# Altium integrated library power.IntLib: 111 symbols
Pins are listed as number, name and electrical type; pins without a type are passive.

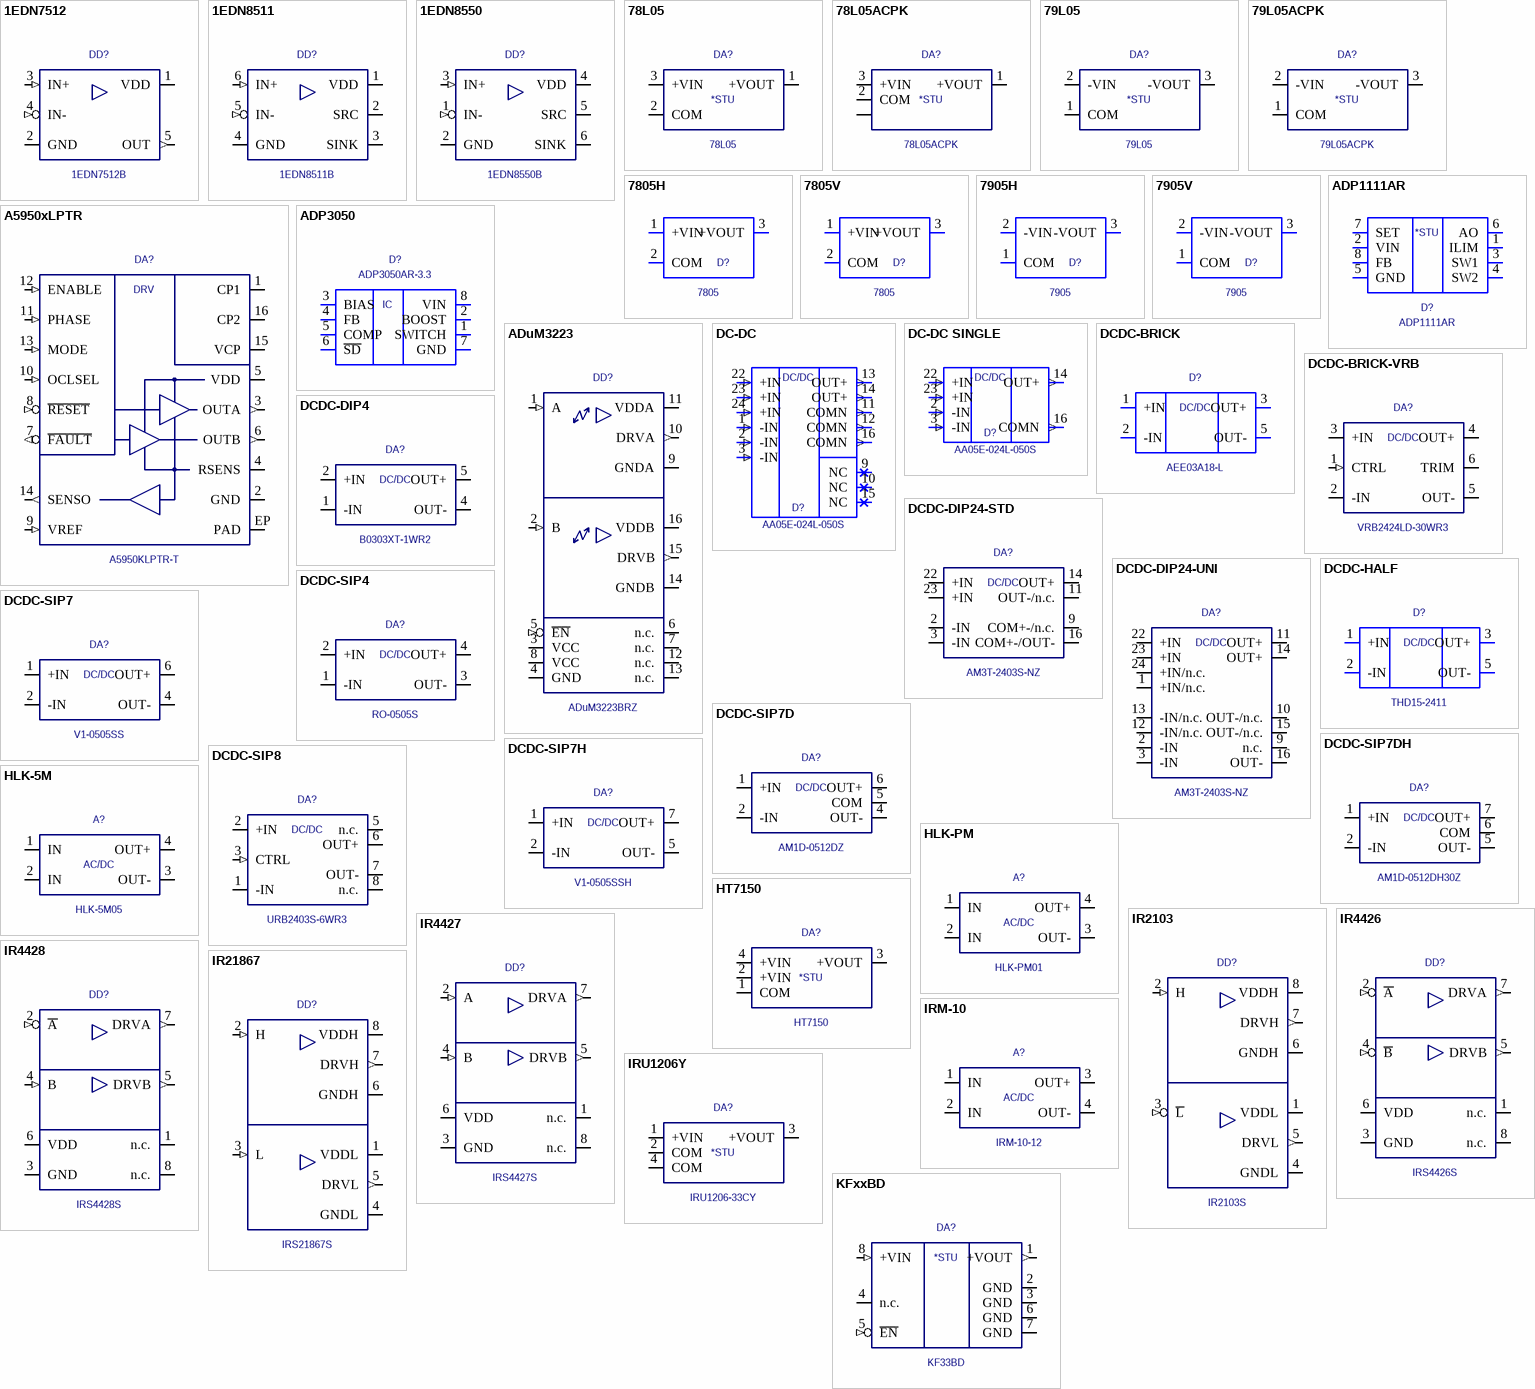
[diagram p0: symbols 1EDN7512 to KFxxBD]

## 1EDN7512
designator DD?, comment 1EDN7512B
Low side driver; Value: 1EDN7512B
footprint SOT-23-5
pins: 1 VDD (power), 2 GND (power), 3 IN+ (in), 4 IN- (in), 5 OUT (out)

## 1EDN8511
designator DD?, comment 1EDN8511B
Low side driver; Value: 1EDN8511B
footprint SOT-23-6
pins: 1 VDD (power), 2 SRC (oe), 3 SINK (oc), 4 GND (power), 5 IN- (in), 6 IN+ (in)

## 1EDN8550
designator DD?, comment 1EDN8550B
Low side driver; Value: 1EDN8550B
footprint SOT-23-6
pins: 1 IN- (in), 2 GND (power), 3 IN+ (in), 4 VDD (power), 5 SRC (oe), 6 SINK (oc)

## 78L05
designator DA?
Positive LDO to92; Value: 78L05
footprint TO-92
pins: 1 +VOUT (power), 2 COM (power), 3 +VIN (power)
text: *STU

## 78L05ACPK
designator DA?
Positive LDO sot89; Value: 78L05ACPK
footprint SOT-89-4
pins: 1 +VOUT (power), 2 COM (power), 3 +VIN (power), 4 COM (power)
text: *STU

## 79L05
designator DA?
Negative LDO to92; Value: 79L05
footprint TO-92
pins: 1 COM (power), 2 -VIN (power), 3 -VOUT (power)
text: *STU

## 79L05ACPK
designator DA?
Negative LDO sot89; Value: 79L05ACPK
footprint SOT-89-4
pins: 1 COM (power), 2 -VIN (power), 3 -VOUT (power), 4 -VIN (power)
text: *STU

## 7805H
designator D?  value 7805  (hidden comment: 7805H)
footprint TO-220-3H
pins: 1 +VIN (power), 2 COM (power), 3 +VOUT (power), 4 hidden

## 7805V
designator D?  value 7805  (hidden comment: 7805V)
footprint TO-220-3V-HV
pins: 1 +VIN (power), 2 COM (power), 3 +VOUT (power)

## 7905H
designator D?  value 7905  (hidden comment: 7905H)
footprint TO-220-3H
pins: 1 COM (power), 2 -VIN (power), 3 -VOUT (power), 4 hidden

## 7905V
designator D?  value 7905  (hidden comment: 7905V)
footprint TO-220-3V-HV
pins: 1 COM (power), 2 -VIN (power), 3 -VOUT (power)

## A5950xLPTR
designator DA?, comment A5950KLPTR-T
DC motor driver; Value: A5950KLPTR-T
footprint TSSOP16E
pins: 1 CP1, 2 GND (power), 3 OUTA (out), 4 RSENS (power), 5 VDD (power), 6 OUTB (out), 7 ~{FAULT} (out), 8 ~{RESET} (in), 9 VREF (in), 10 OCLSEL (in), 11 PHASE (in), 12 ENABLE (in), 13 MODE (in), 14 SENSO (out), 15 VCP, 16 CP2, EP PAD
text: DRV

## ADP1111AR
designator D?
Value: ADP1111AR
footprint SO8
pins: 1 ILIM, 2 VIN (power), 3 SW1, 4 SW2, 5 GND (power), 6 AO, 7 SET, 8 FB
text: *STU

## ADP3050
designator D?  value ADP3050AR-3.3  (hidden comment: ADP3050)
footprint SO8
pins: 1 SWITCH, 2 BOOST, 3 BIAS, 4 FB, 5 COMP, 6 ~{SD}, 7 GND, 8 VIN
text: IC

## ADuM3223
designator DD?, comment ADuM3223BRZ
Isolated gate driver; Value: ADuM3223BRZ
footprint SO16
footprint SO16W
pins: 1 A (in), 2 B (in), 3 VCC (power), 4 GND (power), 5 ~{EN} (in), 6 n.c., 7 n.c., 8 VCC (power), 9 GNDA (power), 10 DRVA (out), 11 VDDA (power), 12 n.c., 13 n.c., 14 GNDB (power), 15 DRVB (out), 16 VDDB (power)

## DC-DC
designator D?  value AA05E-024L-050S  (hidden comment: DC-DC)
footprint DC-DC_DC-DC(Primary)
pins: 1 -IN (in), 2 -IN (in), 3 -IN (in), 9 NC, 10 NC, 11 COMN (out), 12 COMN (out), 13 OUT+ (out), 14 OUT+ (out), 15 NC, 16 COMN (out), 22 +IN (in), 23 +IN (in), 24 +IN (in)
text: DC/DC

## DC-DC SINGLE
designator D?  value AA05E-024L-050S  (hidden comment: DC-DC SINGLE)
footprint DC-DC STANDARD_DC-DC SINGLE(Primary)
pins: 2 -IN (in), 3 -IN (in), 9 hidden, 10 hidden, 11 hidden, 14 OUT+ (out), 15 hidden, 16 COMN (out), 22 +IN (in), 23 +IN (in)
text: DC/DC

## DCDC-BRICK
designator D?  value AEE03A18-L  (hidden comment: DCDC-BRICK)
footprint DCDC-BRICK
pins: 1 +IN (power), 2 -IN (power), 3 OUT+ (power), 4 hidden, 5 OUT- (power), 6 hidden
text: DC/DC

## DCDC-BRICK-VRB
designator DA?, comment VRB2424LD-30WR3
Mornsun DCDC; Value: VRB2424LD-30WR3
footprint DCDC-BRICK-VRB (Mornsun)
pins: 1 CTRL (in), 2 -IN (power), 3 +IN (power), 4 OUT+ (power), 5 OUT- (power), 6 TRIM
text: DC/DC

## DCDC-DIP4
designator DA?, comment B0303XT-1WR2
DCDC-DIP4; Value: B0303XT-1WR2
footprint DIP8S-DCDC-12458
footprint DIP8S-DCDC
pins: 1 -IN (power), 2 +IN (power), 4 OUT- (power), 5 OUT+ (power)
text: DC/DC

## DCDC-DIP24-STD
designator DA?, comment AM3T-2403S-NZ
Standard footprint; Value: AM3T-2403S-NZ
footprint DIP24-DCDC-STD
footprint DIP24-DCDC-AM3TNZ
pins: 2 -IN (power), 3 -IN (power), 9 COM+-/n.c. (power), 11 OUT-/n.c. (power), 14 OUT+ (power), 16 COM+-/OUT- (power), 22 +IN (power), 23 +IN (power)
text: DC/DC

## DCDC-DIP24-UNI
designator DA?, comment AM3T-2403S-NZ
Universal footprint; Value: AM3T-2403S-NZ
footprint DIP24-DCDC-UNI
pins: 1 +IN/n.c. (power), 2 -IN (power), 3 -IN (power), 9 n.c. (power), 10 OUT-/n.c. (power), 11 OUT+ (power), 12 -IN/n.c. (power), 13 -IN/n.c. (power), 14 OUT+ (power), 15 OUT-/n.c. (power), 16 OUT- (power), 22 +IN (power), 23 +IN (power), 24 +IN/n.c. (power)
text: DC/DC

## DCDC-HALF
designator D?  value THD15-2411  (hidden comment: DCDC-HALF)
footprint DCDC-HALF
pins: 1 +IN (power), 2 -IN (power), 3 OUT+ (power), 4 hidden, 5 OUT- (power), 6 hidden
text: DC/DC

## DCDC-SIP4
designator DA?, comment RO-0505S
DCDC-SIP4; Value: RO-0505S
footprint SIP4
pins: 1 -IN (power), 2 +IN (power), 3 OUT- (power), 4 OUT+ (power)
text: DC/DC

## DCDC-SIP7
designator DA?, comment V1-0505SS
DCDC-SIP7; Value: V1-0505SS
footprint SIP7-1246
pins: 1 +IN (power), 2 -IN (power), 4 OUT- (power), 6 OUT+ (power)
text: DC/DC

## DCDC-SIP7D
designator DA?, comment AM1D-0512DZ
DCDC-SIP7 bipolar out; Value: AM1D-0512DZ
footprint SIP7-12456
pins: 1 +IN (power), 2 -IN (power), 4 OUT- (power), 5 COM (power), 6 OUT+ (power)
text: DC/DC

## DCDC-SIP7DH
designator DA?, comment AM1D-0512DH30Z
DCDC-SIP7H bipolar out; Value: AM1D-0512DH30Z
footprint SIP7-12567
pins: 1 +IN (power), 2 -IN (power), 5 OUT- (power), 6 COM (power), 7 OUT+ (power)
text: DC/DC

## DCDC-SIP7H
designator DA?, comment V1-0505SSH
DCDC-SIP7H; Value: V1-0505SSH
footprint SIP7-1257
pins: 1 +IN (power), 2 -IN (power), 5 OUT- (power), 7 OUT+ (power)
text: DC/DC

## DCDC-SIP8
designator DA?, comment URB2403S-6WR3
Mornsun DCDC; Value: URB2403S-6WR3
footprint SIP8-1235678
pins: 1 -IN (power), 2 +IN (power), 3 CTRL (in), 5 n.c. (power), 6 OUT+ (power), 7 OUT- (power), 8 n.c.
text: DC/DC

## HLK-5M
designator A?, comment HLK-5M05
5W AC/DC module; Value: HLK-5M05
footprint HLK-5M
pins: 1 IN (power), 2 IN (power), 3 OUT- (power), 4 OUT+ (power)
text: AC/DC

## HLK-PM
designator A?, comment HLK-PM01
3W AC/DC module; Value: HLK-PM01
footprint HLK-PM
pins: 1 IN (power), 2 IN (power), 3 OUT- (power), 4 OUT+ (power)
text: AC/DC

## HT7150
designator DA?
Positive LDO sot89; Value: HT7150
footprint SOT-89-4
pins: 1 COM, 2 +VIN, 3 +VOUT, 4 +VIN
text: *STU

## IR2103
designator DD?, comment IR2103S
Half-bridge driver; Value: IR2103S
footprint SO8
pins: 1 VDDL (power), 2 H (in), 3 ~{L} (in), 4 GNDL (power), 5 DRVL (out), 6 GNDH (power), 7 DRVH (out), 8 VDDH (power)

## IR4426
designator DD?, comment IRS4426S
Low side drivers; Value: IRS4426S
footprint SO8
pins: 1 n.c., 2 ~{A} (in), 3 GND (power), 4 ~{B} (in), 5 DRVB (out), 6 VDD (power), 7 DRVA (out), 8 n.c.

## IR4427
designator DD?, comment IRS4427S
Low side drivers; Value: IRS4427S
footprint SO8
pins: 1 n.c., 2 A (in), 3 GND (power), 4 B (in), 5 DRVB (out), 6 VDD (power), 7 DRVA (out), 8 n.c.

## IR4428
designator DD?, comment IRS4428S
Low side drivers; Value: IRS4428S
footprint SO8
pins: 1 n.c., 2 ~{A} (in), 3 GND (power), 4 B (in), 5 DRVB (out), 6 VDD (power), 7 DRVA (out), 8 n.c.

## IR21867
designator DD?, comment IRS21867S
Half-bridge driver; Value: IRS21867S
footprint SO8
pins: 1 VDDL (power), 2 H (in), 3 L (in), 4 GNDL (power), 5 DRVL (out), 6 GNDH (power), 7 DRVH (out), 8 VDDH (power)

## IRM-10
designator A?, comment IRM-10-12
10W AC/DC module; Value: IRM-10-12
footprint IRM-10
pins: 1 IN (power), 2 IN (power), 3 OUT+ (power), 4 OUT- (power)
text: AC/DC

## IRU1206Y
designator DA?, comment IRU1206-33CY
Positive LDO; Value: IRU1206-33CY
footprint SOT-223
footprint SOT-89-4
pins: 1 +VIN, 2 COM, 3 +VOUT, 4 COM
text: *STU

## KFxxBD
designator DA?, comment KF33BD
Positive LDO; Value: KF33BD
footprint SO8
pins: 1 +VOUT (out), 2 GND (power), 3 GND (power), 4 n.c. (power), 5 ~{EN} (in), 6 GND (power), 7 GND (power), 8 +VIN (in)
text: *STU

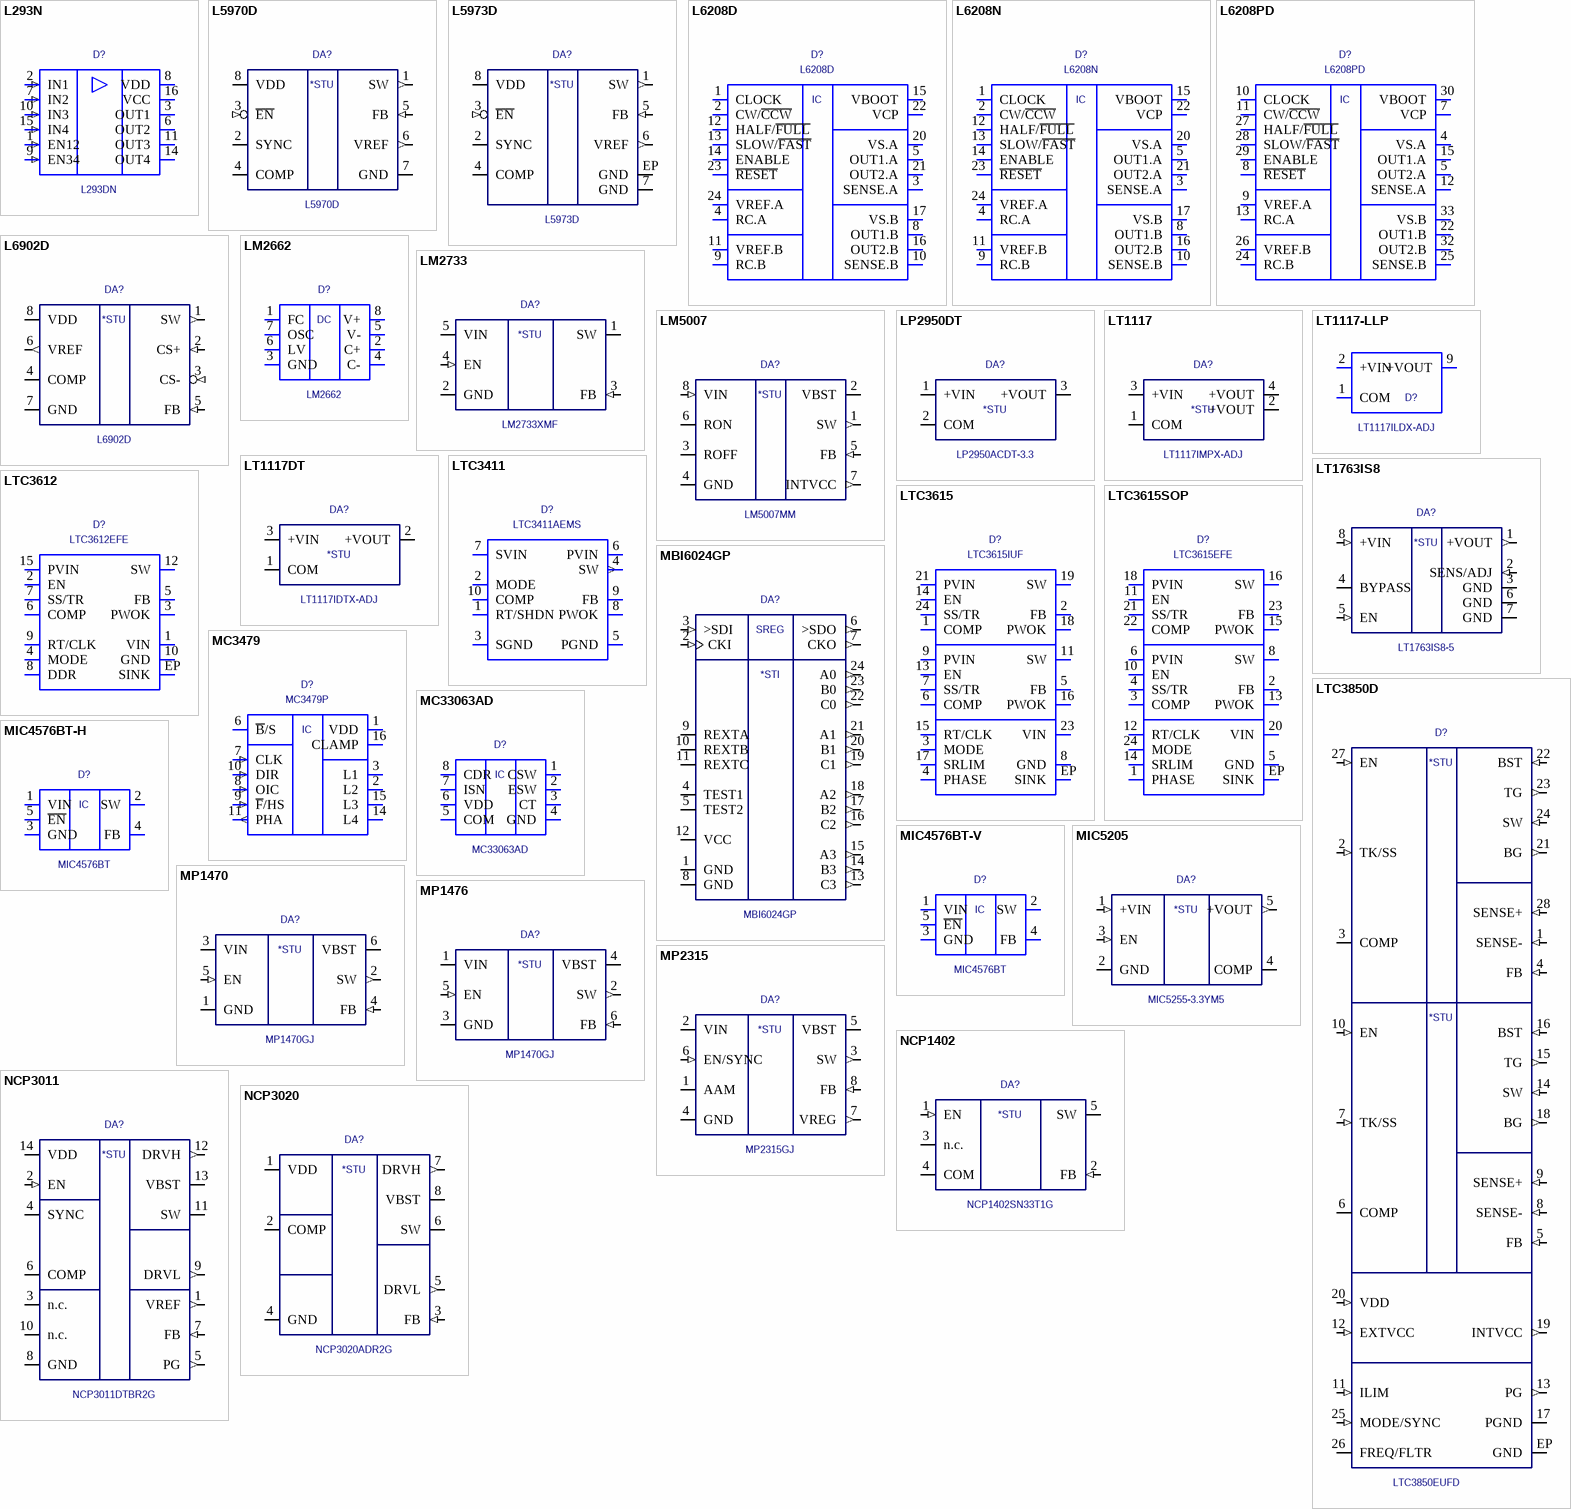
[diagram p1: symbols L293N to NCP3020]

## L293N
designator D?  value L293DN  (hidden comment: L293N)
footprint DIP16
pins: 1 EN12 (in), 2 IN1 (in), 3 OUT1, 4 GND (power) hidden, 5 GND (power) hidden, 6 OUT2, 7 IN2 (in), 8 VDD, 9 EN34 (in), 10 IN3 (in), 11 OUT3, 12 GND (power) hidden, 13 GND (power) hidden, 14 OUT4, 15 IN4 (in), 16 VCC

## L5970D
designator DA?
Step-down converter; Value: L5970D
footprint SO8
pins: 1 SW (out), 2 SYNC (io), 3 ~{EN} (in), 4 COMP, 5 FB (in), 6 VREF (out), 7 GND (power), 8 VDD (power)
text: *STU

## L5973D
designator DA?
Step-down converter; Value: L5973D
footprint SO8E
pins: 1 SW (out), 2 SYNC (io), 3 ~{EN} (in), 4 COMP, 5 FB (in), 6 VREF (out), 7 GND (power), 8 VDD (power), EP GND (power)
text: *STU

## L6208D
designator D?
Value: L6208D
footprint SO24
pins: 1 CLOCK, 2 CW/~{CCW}, 3 SENSE.A, 4 RC.A, 5 OUT1.A, 6 GND (power) hidden, 7 GND (power) hidden, 8 OUT1.B, 9 RC.B, 10 SENSE.B, 11 VREF.B, 12 HALF/~{FULL}, 13 SLOW/~{FAST}, 14 ENABLE, 15 VBOOT, 16 OUT2.B, 17 VS.B, 18 GND (power) hidden, 19 GND (power) hidden, 20 VS.A, 21 OUT2.A, 22 VCP, 23 ~{RESET}, 24 VREF.A
text: IC

## L6208N
designator D?
Value: L6208N
footprint DIP24L
pins: 1 CLOCK, 2 CW/~{CCW}, 3 SENSE.A, 4 RC.A, 5 OUT1.A, 6 GND (power) hidden, 7 GND (power) hidden, 8 OUT1.B, 9 RC.B, 10 SENSE.B, 11 VREF.B, 12 HALF/~{FULL}, 13 SLOW/~{FAST}, 14 ENABLE, 15 VBOOT, 16 OUT2.B, 17 VS.B, 18 GND (power) hidden, 19 GND (power) hidden, 20 VS.A, 21 OUT2.A, 22 VCP, 23 ~{RESET}, 24 VREF.A
text: IC

## L6208PD
designator D?
Value: L6208PD
footprint POWERSO36
pins: 1 GND (power) hidden, 2 hidden, 3 hidden, 4 VS.A, 5 OUT2.A, 6 hidden, 7 VCP, 8 ~{RESET}, 9 VREF.A, 10 CLOCK, 11 CW/~{CCW}, 12 SENSE.A, 13 RC.A, 14 hidden, 15 OUT1.A, 16 hidden, 17 hidden, 18 GND (power) hidden, 19 GND (power) hidden, 20 hidden, 21 hidden, 22 OUT1.B, 23 hidden, 24 RC.B, 25 SENSE.B, 26 VREF.B, 27 HALF/~{FULL}, 28 SLOW/~{FAST}, 29 ENABLE, 30 VBOOT, 31 hidden, 32 OUT2.B, 33 VS.B, 34 hidden, 35 hidden, 36 GND (power) hidden, 37 GND (power) hidden
text: IC

## L6902D
designator DA?
Step-down converter; Value: L6902D
footprint SO8
pins: 1 SW (out), 2 CS+ (in), 3 CS- (in), 4 COMP, 5 FB (in), 6 VREF (out), 7 GND (power), 8 VDD (power)
text: *STU

## LM2662
designator D?
Value: LM2662
footprint SO8
pins: 1 FC, 2 C+, 3 GND, 4 C-, 5 V-, 6 LV, 7 OSC, 8 V+
text: DC

## LM2733
designator DA?, comment LM2733XMF
Step-up converter; Value: LM2733XMF
footprint SOT-23-5
pins: 1 SW, 2 GND (power), 3 FB (in), 4 EN (in), 5 VIN (power)
text: *STU

## LM5007
designator DA?, comment LM5007MM
Step-down 80V 0.7A; Value: LM5007MM
footprint TSSOP8-4MM (0.65mm pitch)
pins: 1 SW (out), 2 VBST, 3 ROFF (power), 4 GND (power), 5 FB (in), 6 RON (power), 7 INTVCC (out), 8 VIN (in)
text: *STU

## LP2950DT
designator DA?, comment LP2950ACDT-3.3
LDO TO-252; Value: LP2950ACDT-3.3
footprint TO-252-3
pins: 1 +VIN, 2 COM, 3 +VOUT
text: *STU

## LT1117
designator DA?, comment LT1117IMPX-ADJ
Positive LDO sot223; Value: LT1117IMPX-ADJ
footprint SOT-223
footprint TO-263-4
pins: 1 COM, 2 +VOUT, 3 +VIN, 4 +VOUT
text: *STU

## LT1117-LLP
designator D?  value LT1117ILDX-ADJ  (hidden comment: LT1117-LLP)
footprint LLP8
pins: 1 COM, 2 +VIN, 3 hidden, 4 hidden, 5 hidden, 6 hidden, 7 hidden, 8 hidden, 9 +VOUT

## LT1117DT
designator DA?, comment LT1117IDTX-ADJ
LT1117; Value: LT1117IDTX-ADJ
footprint TO-252-3
footprint SOT-23 (0.95mm pitch)
pins: 1 COM, 2 +VOUT, 3 +VIN
text: *STU

## LT1763IS8
designator DA?, comment LT1763IS8-5
Positive LDO; Value: LT1763IS8-5
footprint SO8
pins: 1 +VOUT (out), 2 SENS/ADJ (in), 3 GND (power), 4 BYPASS, 5 EN (in), 6 GND (power), 7 GND (power), 8 +VIN (in)
text: *STU

## LTC3411
designator D?  value LTC3411AEMS  (hidden comment: LTC3411)
footprint MSOP10
pins: 1 RT/SHDN, 2 MODE, 3 SGND (power), 4 SW (out), 5 PGND (power), 6 PVIN (power), 7 SVIN (power), 8 PWOK (oe), 9 FB, 10 COMP

## LTC3612
designator D?  value LTC3612EFE  (hidden comment: LTC3612)
footprint TSSOP20E
pins: 1 VIN, 2 EN, 3 PWOK, 4 MODE, 5 FB, 6 COMP, 7 SS/TR, 8 DDR, 9 RT/CLK, 10 GND, 11 hidden, 12 SW, 13 hidden, 14 hidden, 15 PVIN, 16 hidden, 17 hidden, 18 hidden, 19 hidden, 20 hidden, EP SINK

## LTC3615
designator D?  value LTC3615IUF  (hidden comment: LTC3615)
footprint MLF24
pins: 1 COMP, 2 FB, 3 MODE, 4 PHASE, 5 FB, 6 COMP, 7 SS/TR, 8 GND, 9 PVIN, 10 hidden, 11 SW, 12 hidden, 13 EN, 14 EN, 15 RT/CLK, 16 PWOK, 17 SRLIM, 18 PWOK, 19 SW, 20 hidden, 21 PVIN, 22 hidden, 23 VIN, 24 SS/TR, EP SINK

## LTC3615SOP
designator D?  value LTC3615EFE  (hidden comment: LTC3615SOP)
footprint TSSOP24E
pins: 1 PHASE, 2 FB, 3 COMP, 4 SS/TR, 5 GND, 6 PVIN, 7 hidden, 8 SW, 9 hidden, 10 EN, 11 EN, 12 RT/CLK, 13 PWOK, 14 SRLIM, 15 PWOK, 16 SW, 17 hidden, 18 PVIN, 19 hidden, 20 VIN, 21 SS/TR, 22 COMP, 23 FB, 24 MODE, EP SINK

## LTC3850D
designator D?, comment LTC3850EUFD
2x step-down controller; Value: LTC3850EUFD
footprint MLF28-4x5
pins: 1 SENSE- (in), 2 TK/SS (in), 3 COMP, 4 FB (in), 5 FB (in), 6 COMP, 7 TK/SS (in), 8 SENSE- (in), 9 SENSE+ (in), 10 EN (in), 11 ILIM (in), 12 EXTVCC (in), 13 PG (out), 14 SW (in), 15 TG (out), 16 BST (in), 17 PGND (power), 18 BG (out), 19 INTVCC (out), 20 VDD (in), 21 BG (out), 22 BST (in), 23 TG (out), 24 SW (in), 25 MODE/SYNC (in), 26 FREQ/FLTR, 27 EN (in), 28 SENSE+ (in), EP GND (power)
text: *STU

## MBI6024GP
designator DA?
LED driver; Value: MBI6024GP
footprint TSSOP24-6MM (0.65mm pitch)
pins: 1 GND (power), 2 CKI (in), 3 >SDI (in), 4 TEST1, 5 TEST2, 6 >SDO (out), 7 CKO (out), 8 GND (power), 9 REXTA, 10 REXTB, 11 REXTC, 12 VCC (power), 13 C3 (out), 14 B3 (out), 15 A3 (out), 16 C2 (out), 17 B2 (out), 18 A2 (out), 19 C1 (out), 20 B1 (out), 21 A1 (out), 22 C0 (out), 23 B0 (out), 24 A0 (out)
text: SREG; *STI

## MC3479
designator D?  value MC3479P  (hidden comment: MC3479)
footprint DIP16
pins: 1 VDD (power), 2 L2, 3 L1, 4 GND (power) hidden, 5 GND (power) hidden, 6 ~{B}/S, 7 CLK (in), 8 OIC (in), 9 ~{F}/HS (in), 10 DIR (in), 11 PHA (out), 12 GND (power) hidden, 13 GND (power) hidden, 14 L4, 15 L3, 16 CLAMP
text: IC

## MC33063AD
designator D?
Value: MC33063AD
footprint SO8
pins: 1 CSW, 2 ESW, 3 CT, 4 GND, 5 COM, 6 VDD, 7 ISN, 8 CDR
text: IC

## MIC4576BT-H
designator D?  value MIC4576BT  (hidden comment: MIC4576BT-H)
footprint TO-220-5H
pins: 1 VIN, 2 SW, 3 GND, 4 FB, 5 ~{EN}, 6 hidden
text: IC

## MIC4576BT-V
designator D?  value MIC4576BT  (hidden comment: MIC4576BT-V)
footprint TO-220-5V
pins: 1 VIN, 2 SW, 3 GND, 4 FB, 5 ~{EN}
text: IC

## MIC5205
designator DA?, comment MIC5255-3.3YM5
Positive LDO; Value: MIC5255-3.3YM5
footprint SOT-23-5
pins: 1 +VIN (in), 2 GND (power), 3 EN (in), 4 COMP, 5 +VOUT (out)
text: *STU

## MP1470
designator DA?, comment MP1470GJ
Step-down SOT-23-6; Value: MP1470GJ
footprint SOT-23-6 (0.95mm pitch)
pins: 1 GND (power), 2 SW (out), 3 VIN (power), 4 FB (in), 5 EN (in), 6 VBST
text: *STU

## MP1476
designator DA?, comment MP1470GJ
Step-down SOT-563; Value: MP1470GJ
footprint SOT-563 (0,5mm pitch)
pins: 1 VIN (power), 2 SW (out), 3 GND (power), 4 VBST, 5 EN (in), 6 FB (in)
text: *STU

## MP2315
designator DA?, comment MP2315GJ
Step-down SOT-23-8; Value: MP2315GJ
footprint SOT-23-8
pins: 1 AAM, 2 VIN (power), 3 SW (out), 4 GND (power), 5 VBST, 6 EN/SYNC (in), 7 VREG (out), 8 FB (in)
text: *STU

## NCP1402
designator DA?, comment NCP1402SN33T1G
Step-up 200mA; Value: NCP1402SN33T1G
footprint SOT-23-5
pins: 1 EN (in), 2 FB (in), 3 n.c., 4 COM (power), 5 SW (oc)
text: *STU

## NCP3011
designator DA?, comment NCP3011DTBR2G
Step-down controller; Value: NCP3011DTBR2G
footprint TSSOP14
pins: 1 VREF (out), 2 EN (in), 3 n.c., 4 SYNC (io), 5 PG (out), 6 COMP, 7 FB (in), 8 GND (power), 9 DRVL (out), 10 n.c. (power), 11 SW, 12 DRVH (out), 13 VBST, 14 VDD (power)
text: *STU

## NCP3020
designator DA?, comment NCP3020ADR2G
Step-down controller; Value: NCP3020ADR2G
footprint SO8
pins: 1 VDD (power), 2 COMP, 3 FB (in), 4 GND (power), 5 DRVL (out), 6 SW, 7 DRVH (out), 8 VBST
text: *STU

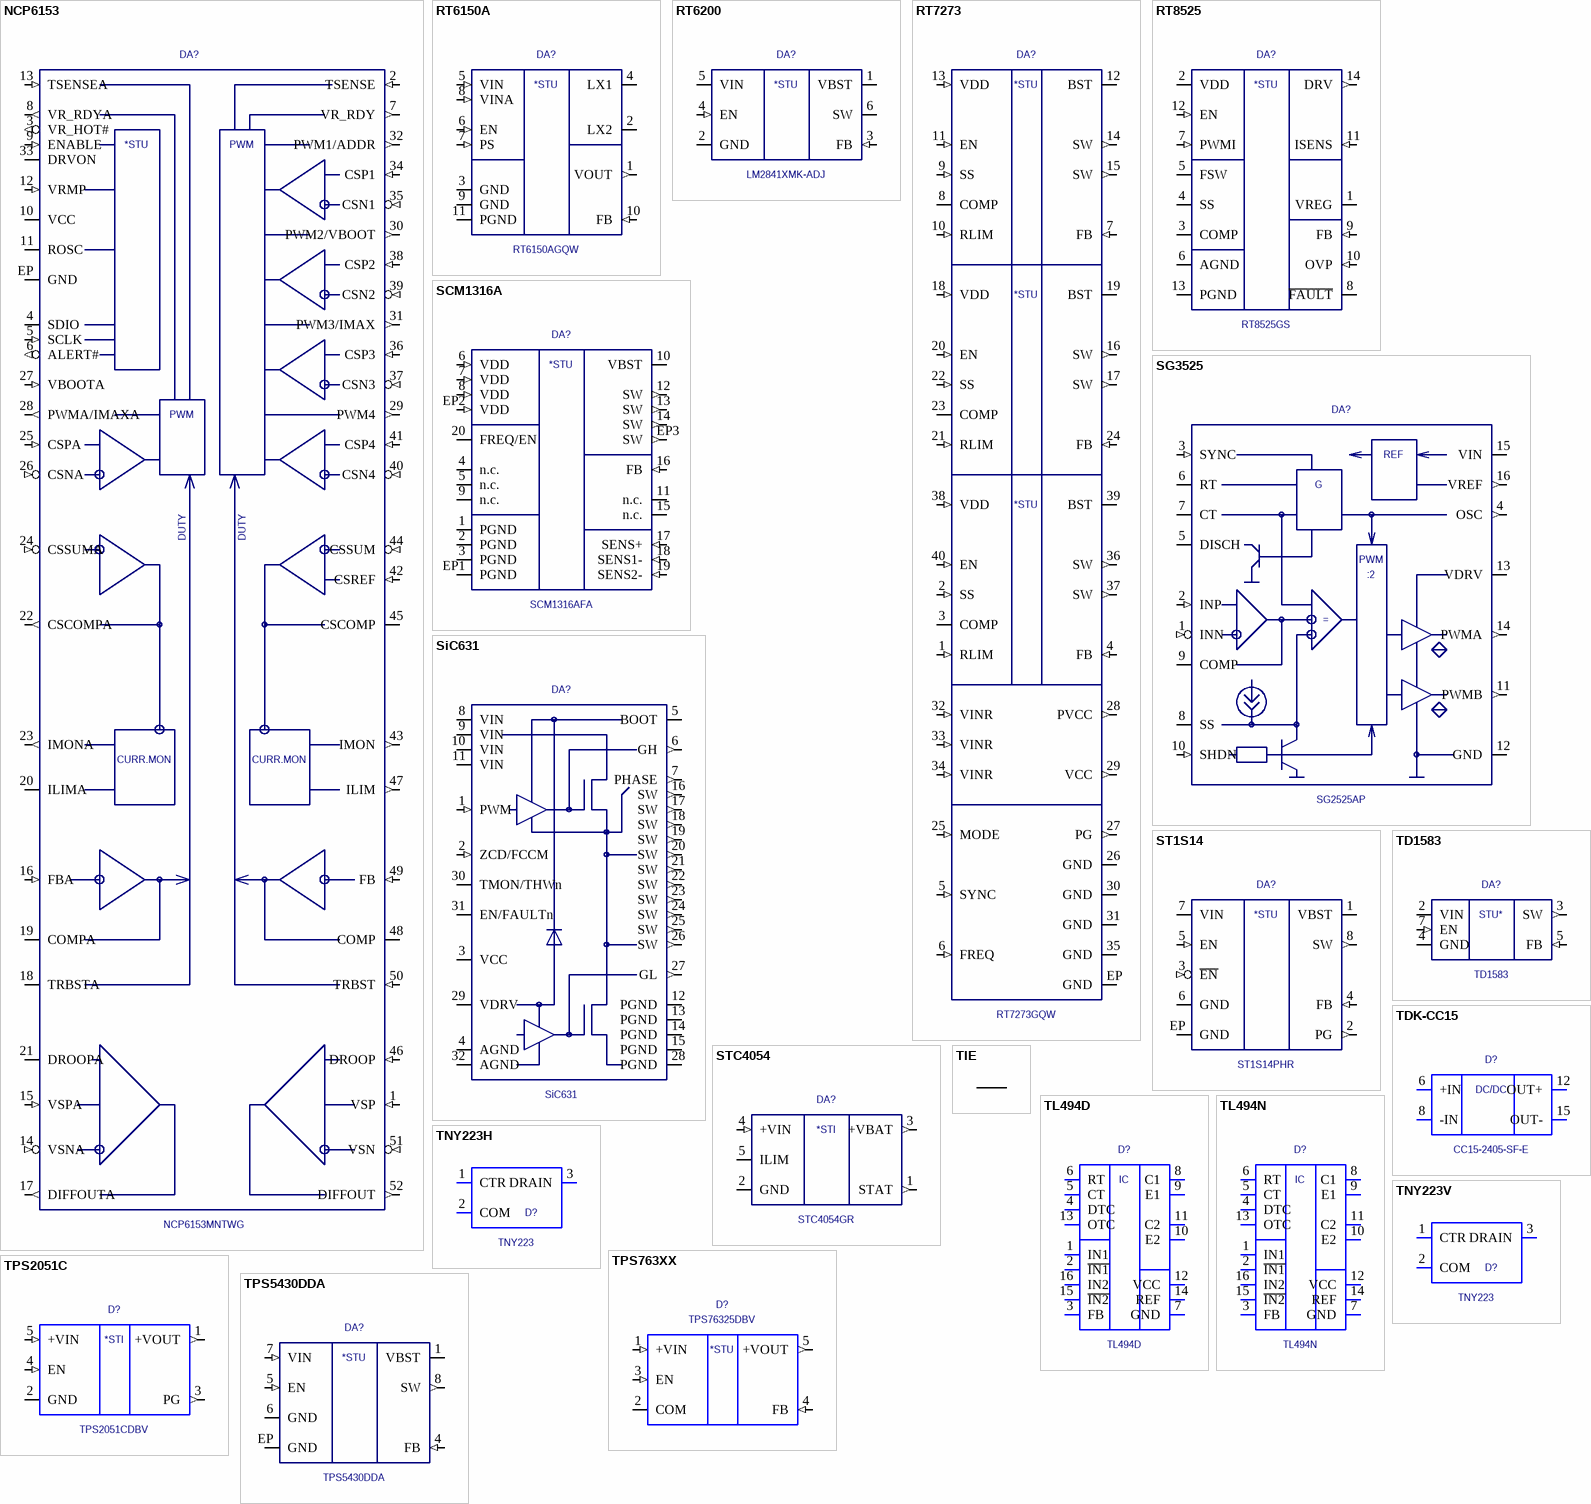
[diagram p2: symbols NCP6153 to TPS5430DDA]

## NCP6153
designator DA?, comment NCP6153MNTWG
4+1 phase controller; Value: NCP6153MNTWG
footprint QFN52-04
pins: 1 VSP (in), 2 TSENSE (in), 3 VR_HOT# (out), 4 SDIO (io), 5 SCLK (in), 6 ALERT# (out), 7 VR_RDY (out), 8 VR_RDYA (out), 9 ENABLE (in), 10 VCC (power), 11 ROSC, 12 VRMP (in), 13 TSENSEA (in), 14 VSNA (in), 15 VSPA (in), 16 FBA (in), 17 DIFFOUTA (out), 18 TRBSTA, 19 COMPA (io), 20 ILIMA, 21 DROOPA, 22 CSCOMPA (out), 23 IMONA (out), 24 CSSUMA (in), 25 CSPA (in), 26 CSNA (in), 27 VBOOTA (in), 28 PWMA/IMAXA (out), 29 PWM4 (out), 30 PWM2/VBOOT (out), 31 PWM3/IMAX (out), 32 PWM1/ADDR (out), 33 DRVON (io), 34 CSP1 (in), 35 CSN1 (in), 36 CSP3 (in), 37 CSN3 (in), 38 CSP2 (in), 39 CSN2 (in), 40 CSN4 (in), 41 CSP4 (in), 42 CSREF (in), 43 IMON (out), 44 CSSUM (in), 45 CSCOMP (io), 46 DROOP (in), 47 ILIM (out), 48 COMP (io), 49 FB (in), 50 TRBST (in), 51 VSN (in), 52 DIFFOUT (out), EP GND (power)
text: *STU; PWM; DUTY; CURR.MON

## RT6150A
designator DA?, comment RT6150AGQW
StepUp/Down converter; Value: RT6150AGQW
footprint PVQFN-N10
pins: 1 VOUT (out), 2 LX2, 3 GND (power), 4 LX1, 5 VIN (in), 6 EN (in), 7 PS (in), 8 VINA (in), 9 GND (power), 10 FB (in), 11 PGND (power), 12 PGND (power), 13 PGND (power), 14 PGND (power), 15 PGND (power)
text: *STU

## RT6200
designator DA?, comment LM2841XMK-ADJ
Step-down converter; Value: LM2841XMK-ADJ
footprint SOT-23-6
pins: 1 VBST, 2 GND (power), 3 FB (in), 4 EN (in), 5 VIN (power), 6 SW
text: *STU

## RT7273
designator DA?, comment RT7273GQW
3x step-down converter; Value: RT7273GQW
footprint MLF40
pins: 1 RLIM (in), 2 SS (in), 3 COMP, 4 FB (in), 5 SYNC (in), 6 FREQ (in), 7 FB (in), 8 COMP, 9 SS (in), 10 RLIM (in), 11 EN (in), 12 BST, 13 VDD (in), 14 SW (out), 15 SW (out), 16 SW (out), 17 SW (out), 18 VDD (in), 19 BST, 20 EN (in), 21 RLIM (in), 22 SS (in), 23 COMP, 24 FB (in), 25 MODE (in), 26 GND (power), 27 PG (out), 28 PVCC (out), 29 VCC (out), 30 GND (power), 31 GND (power), 32 VINR (in), 33 VINR (in), 34 VINR (in), 35 GND (power), 36 SW (out), 37 SW (out), 38 VDD (in), 39 BST, 40 EN (in), EP GND (power)
text: *STU

## RT8525
designator DA?, comment RT8525GS
StepUp controller; Value: RT8525GS
footprint SO14
pins: 1 VREG, 2 VDD (power), 3 COMP, 4 SS, 5 FSW, 6 AGND (power), 7 PWMI (in), 8 ~{FAULT} (io), 9 FB (in), 10 OVP (in), 11 ISENS (in), 12 EN (in), 13 PGND (power), 14 DRV (out)
text: *STU

## SCM1316A
designator DA?, comment SCM1316AFA
Step-down 6A converter; Value: SCM1316AFA
footprint PVQFN20-0.8 (Mornsun SCM1316)
pins: 1 PGND (power), 2 PGND (power), 3 PGND (power), 4 n.c., 5 n.c., 6 VDD (in), 7 VDD (in), 8 VDD (in), 9 n.c., 10 VBST, 11 n.c., 12 SW (out), 13 SW (out), 14 SW (out), 15 n.c., 16 FB (in), 17 SENS+ (in), 18 SENS1- (in), 19 SENS2- (in), 20 FREQ/EN, EP1 PGND (power), EP2 VDD (in), EP3 SW (out)
text: *STU

## SG3525
designator DA?, comment SG2525AP
Push-pull controller; Value: SG2525AP
footprint SO16
footprint DIP16
pins: 1 INN (in), 2 INP (in), 3 SYNC (in), 4 OSC (out), 5 DISCH, 6 RT, 7 CT, 8 SS (io), 9 COMP (io), 10 SHDN (in), 11 PWMB (out), 12 GND (power), 13 VDRV (power), 14 PWMA (out), 15 VIN (power), 16 VREF (out)
text: REF; G; PWM; :2

## SiC631
designator DA?
DrMOS; Value: SiC631
footprint MLP55-31L
pins: 1 PWM (in), 2 ZCD/FCCM (in), 3 VCC (power), 4 AGND (power), 5 BOOT (power), 6 GH (out), 7 PHASE (out), 8 VIN (power), 9 VIN (power), 10 VIN (power), 11 VIN (power), 12 PGND (power), 13 PGND (power), 14 PGND (power), 15 PGND (power), 16 SW (out), 17 SW (out), 18 SW (out), 19 SW (out), 20 SW (out), 21 SW (out), 22 SW (out), 23 SW (out), 24 SW (out), 25 SW (out), 26 SW (out), 27 GL (out), 28 PGND (power), 29 VDRV (power), 30 TMON/THWn (io), 31 EN/FAULTn (io), 32 AGND (power), 34 VIN (power), 35 PGND (power), 36 PGND (power), 37 SW (out), 38 SW (out)

## ST1S14
designator DA?, comment ST1S14PHR
Step-down converter; Value: ST1S14PHR
footprint SO8E
pins: 1 VBST, 2 PG (out), 3 ~{EN} (in), 4 FB (in), 5 EN (in), 6 GND (power), 7 VIN (power), 8 SW (out), EP GND (power)
text: *STU

## STC4054
designator DA?, comment STC4054GR
1cell LiIon charger; Analog: YB1880ST25P; Value: STC4054GR
footprint SOT-23-5
pins: 1 STAT (out), 2 GND (power), 3 +VBAT (out), 4 +VIN (in), 5 ILIM
text: *STI

## TD1583
designator DA?
StepDown 3A; Value: TD1583
footprint SO8
pins: 2 VIN (power), 3 SW (out), 4 GND (power), 5 FB (in), 7 EN (in)
text: STU*

## TDK-CC15
designator D?  value CC15-2405-SF-E  (hidden comment: TDK-CC15)
footprint TDK-CC15
pins: 1 hidden, 2 hidden, 3 hidden, 4 hidden, 5 hidden, 6 +IN (power), 7 hidden, 8 -IN (power), 9 hidden, 10 hidden, 11 hidden, 12 OUT+ (power), 13 hidden, 14 hidden, 15 OUT- (power), 16 hidden, 17 hidden, 18 hidden, 19 hidden
text: DC/DC

## TIE
designator ?  (net tie, no BOM)
Net tie
pins: 1, 2

## TL494D
designator D?
Value: TL494D
footprint SO16
pins: 1 IN1, 2 ~{IN1}, 3 FB, 4 DTC, 5 CT, 6 RT, 7 GND, 8 C1, 9 E1, 10 E2, 11 C2, 12 VCC, 13 OTC, 14 REF, 15 ~{IN2}, 16 IN2
text: IC

## TL494N
designator D?
Value: TL494N
footprint DIP16
pins: 1 IN1, 2 ~{IN1}, 3 FB, 4 DTC, 5 CT, 6 RT, 7 GND, 8 C1, 9 E1, 10 E2, 11 C2, 12 VCC, 13 OTC, 14 REF, 15 ~{IN2}, 16 IN2
text: IC

## TNY223H
designator D?  value TNY223  (hidden comment: TNY223H)
footprint TO-220-3H
pins: 1 CTR, 2 COM, 3 DRAIN, 4 hidden

## TNY223V
designator D?  value TNY223  (hidden comment: TNY223V)
footprint TO-220-3V-HV
pins: 1 CTR, 2 COM, 3 DRAIN

## TPS763XX
designator D?, comment TPS76325DBV
Positive LDO; Value: TPS76325DBV
footprint SOT-23-5
pins: 1 +VIN (in), 2 COM (power), 3 EN (in), 4 FB (in), 5 +VOUT (out)
text: *STU

## TPS2051C
designator D?, comment TPS2051CDBV
USB current lim SOT23-5; Value: TPS2051CDBV
footprint SOT-23-5
pins: 1 +VOUT (out), 2 GND (power), 3 PG (out), 4 EN (in), 5 +VIN (in)
text: *STI

## TPS5430DDA
designator DA?
Step-down converter; Value: TPS5430DDA
footprint SO8E
pins: 1 VBST, 4 FB (in), 5 EN (in), 6 GND (power), 7 VIN (in), 8 SW (out), EP GND (power)
text: *STU

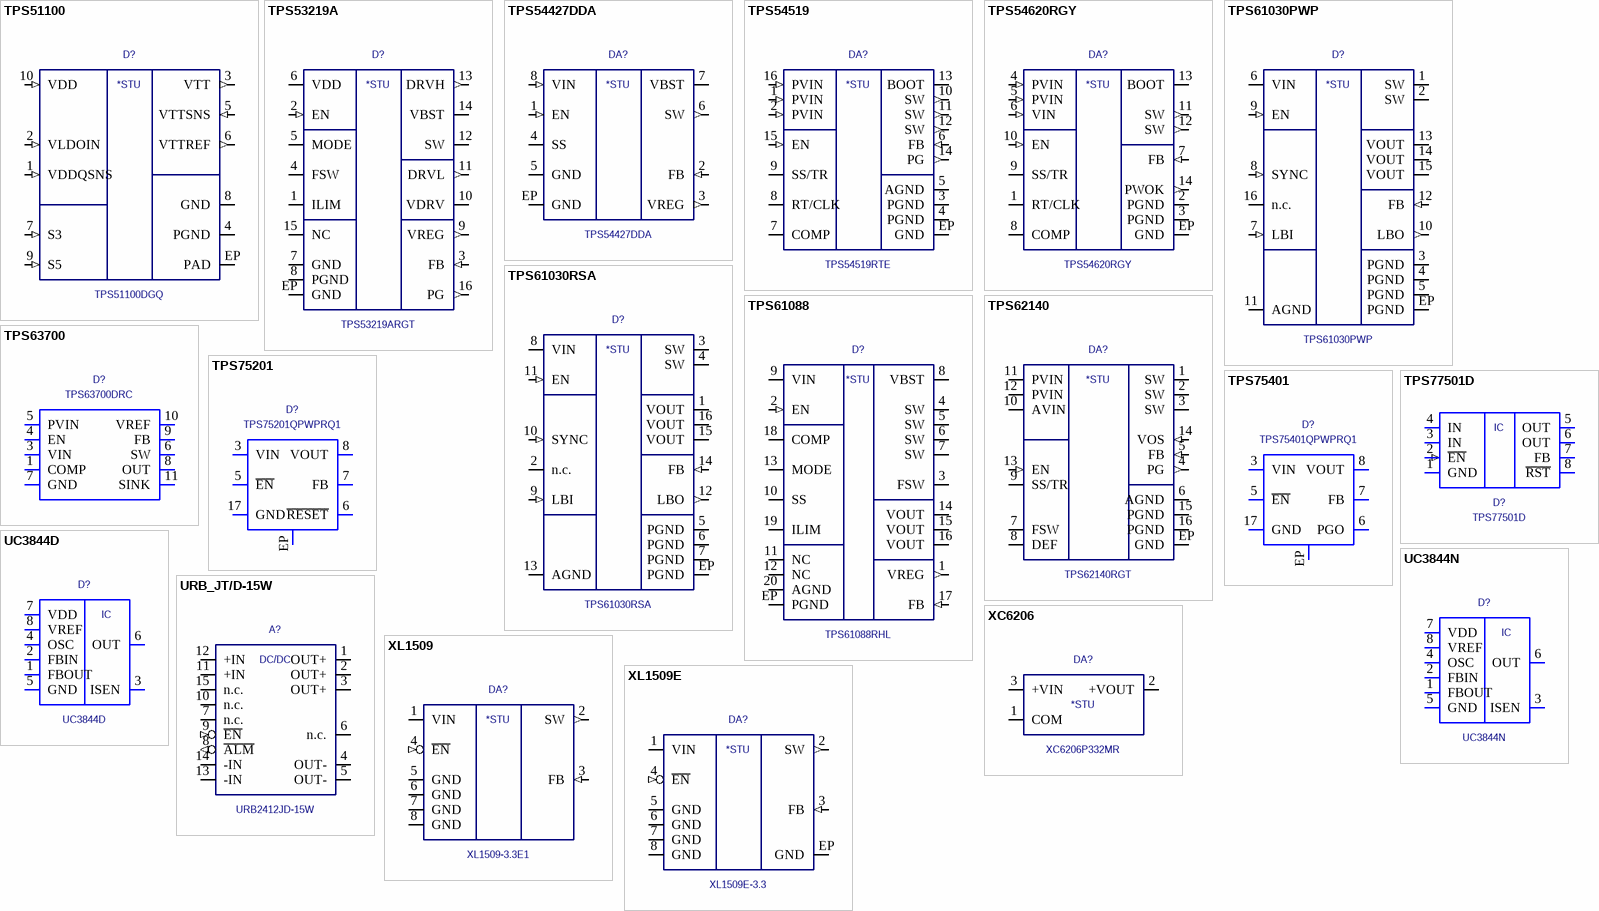
[diagram p3: symbols TPS51100 to XL1509E]

## TPS51100
designator D?, comment TPS51100DGQ
VTT LDO; Value: TPS51100DGQ
footprint MSOP10E
footprint WSON-10-0.4
footprint WSON-10-0.5
pins: 1 VDDQSNS (in), 2 VLDOIN (in), 3 VTT (out), 4 PGND (power), 5 VTTSNS (in), 6 VTTREF (out), 7 S3 (in), 8 GND (power), 9 S5 (in), 10 VDD (in), EP PAD (power)
text: *STU

## TPS53219A
designator D?, comment TPS53219ARGT
Step-down controller; Value: TPS53219ARGT
footprint MLF16
pins: 1 ILIM, 2 EN (in), 3 FB (in), 4 FSW, 5 MODE, 6 VDD (power), 7 GND (power), 8 PGND (power), 9 VREG (out), 10 VDRV, 11 DRVL (out), 12 SW, 13 DRVH (out), 14 VBST, 15 NC, 16 PG (out), EP GND (power)
text: *STU

## TPS54427DDA
designator DA?
Step-down converter; Value: TPS54427DDA
footprint SO8E
pins: 1 EN (in), 2 FB (in), 3 VREG (out), 4 SS, 5 GND (power), 6 SW (out), 7 VBST, 8 VIN (in), EP GND (power)
text: *STU

## TPS54519
designator DA?, comment TPS54519RTE
TPS54519; Value: TPS54519RTE
footprint MLF16
pins: 1 PVIN (in), 2 PVIN (in), 3 PGND (power), 4 PGND (power), 5 AGND (power), 6 FB (in), 7 COMP, 8 RT/CLK, 9 SS/TR, 10 SW (out), 11 SW (out), 12 SW (out), 13 BOOT, 14 PG (out), 15 EN (in), 16 PVIN (in), EP GND (power)
text: *STU

## TPS54620RGY
designator DA?
StepDown 6A; Value: TPS54620RGY
footprint PVQFN-N14
pins: 1 RT/CLK, 2 PGND, 3 PGND, 4 PVIN (in), 5 PVIN (in), 6 VIN (in), 7 FB (in), 8 COMP, 9 SS/TR, 10 EN (in), 11 SW (out), 12 SW (out), 13 BOOT, 14 PWOK (out), 16 GND, 17 GND, EP GND
text: *STU

## TPS61030PWP
designator D?
Bat. StepUp >1A; Value: TPS61030PWP
footprint TSSOP16E
pins: 1 SW, 2 SW, 3 PGND (power), 4 PGND (power), 5 PGND (power), 6 VIN (power), 7 LBI (in), 8 SYNC (in), 9 EN (in), 10 LBO (out), 11 AGND (power), 12 FB (in), 13 VOUT, 14 VOUT, 15 VOUT, 16 n.c., EP PGND (power)
text: *STU

## TPS61030RSA
designator D?
Bat. StepUp >1A; Value: TPS61030RSA
footprint QFN16-065
pins: 1 VOUT, 2 n.c., 3 SW, 4 SW, 5 PGND (power), 6 PGND (power), 7 PGND (power), 8 VIN (power), 9 LBI (in), 10 SYNC (in), 11 EN (in), 12 LBO (out), 13 AGND (power), 14 FB (in), 15 VOUT, 16 VOUT, EP PGND (power)
text: *STU

## TPS61088
designator D?, comment TPS61088RHL
StepUp 10A; Value: TPS61088RHL
footprint PVQFN-N20
pins: 1 VREG (out), 2 EN (in), 3 FSW, 4 SW, 5 SW, 6 SW, 7 SW, 8 VBST, 9 VIN (power), 10 SS, 11 NC, 12 NC, 13 MODE, 14 VOUT, 15 VOUT, 16 VOUT, 17 FB (in), 18 COMP, 19 ILIM, 20 AGND (power), EP PGND (power), EP1 PGND (power), EP10 PGND (power), EP11 PGND (power), EP20 PGND (power)
text: *STU

## TPS62140
designator DA?, comment TPS62140RGT
TPS62140; Value: TPS62140RGT
footprint MLF16
pins: 1 SW, 2 SW, 3 SW, 4 PG (out), 5 FB (in), 6 AGND (power), 7 FSW, 8 DEF, 9 SS/TR, 10 AVIN (power), 11 PVIN (power), 12 PVIN (power), 13 EN (in), 14 VOS (in), 15 PGND (power), 16 PGND (power), EP GND (power)
text: *STU

## TPS63700
designator D?  value TPS63700DRC  (hidden comment: TPS63700)
footprint PVQFN-N10
pins: 1 COMP, 2 hidden, 3 VIN, 4 EN, 5 PVIN, 6 SW, 7 GND, 8 OUT, 9 FB, 10 VREF, 11 SINK, 12 hidden, 13 hidden, 14 hidden, 15 hidden

## TPS75201
designator D?  value TPS75201QPWPRQ1  (hidden comment: TPS75201)
footprint TSSOP20E
pins: 1 hidden, 2 hidden, 3 VIN, 4 hidden, 5 ~{EN}, 6 ~{RESET}, 7 FB, 8 VOUT, 9 hidden, 10 hidden, 11 hidden, 12 hidden, 13 hidden, 14 hidden, 15 hidden, 16 hidden, 17 GND, 18 hidden, 19 hidden, 20 hidden, EP SINK

## TPS75401
designator D?  value TPS75401QPWPRQ1  (hidden comment: TPS75401)
footprint TSSOP20E
pins: 1 hidden, 2 hidden, 3 VIN, 4 hidden, 5 ~{EN}, 6 PGO, 7 FB, 8 VOUT, 9 hidden, 10 hidden, 11 hidden, 12 hidden, 13 hidden, 14 hidden, 15 hidden, 16 hidden, 17 GND, 18 hidden, 19 hidden, 20 hidden, EP SINK

## TPS77501D
designator D?
Value: TPS77501D
footprint SO8
pins: 1 GND (power), 2 ~{EN} (in), 3 IN (power), 4 IN (power), 5 OUT, 6 OUT, 7 FB, 8 ~{RST} (oe)
text: IC

## UC3844D
designator D?
Value: UC3844D
footprint SO8
pins: 1 FBOUT, 2 FBIN, 3 ISEN, 4 OSC, 5 GND, 6 OUT, 7 VDD, 8 VREF
text: IC

## UC3844N
designator D?
Value: UC3844N
footprint DIP8
pins: 1 FBOUT, 2 FBIN, 3 ISEN, 4 OSC, 5 GND, 6 OUT, 7 VDD, 8 VREF
text: IC

## URB_JT/D-15W
designator A?, comment URB2412JD-15W
DCDC 15W; Value: URB2412JD-15W
footprint URB_JT-15W
footprint URB_JD-15W
pins: 1 OUT+ (power), 2 OUT+ (power), 3 OUT+ (power), 4 OUT- (power), 5 OUT- (power), 6 n.c., 7 n.c., 8 ~{ALM} (out), 9 ~{EN} (in), 10 n.c., 11 +IN (power), 12 +IN (power), 13 -IN (power), 14 -IN (power), 15 n.c.
text: DC/DC

## XC6206
designator DA?, comment XC6206P332MR
Positive LDO sot23; Value: XC6206P332MR
footprint SOT-23 (0.95mm pitch)
pins: 1 COM (power), 2 +VOUT (power), 3 +VIN (power)
text: *STU

## XL1509
designator DA?, comment XL1509-3.3E1
Step-down converter; Value: XL1509-3.3E1
footprint SO8
pins: 1 VIN (power), 2 SW (out), 3 FB (in), 4 ~{EN} (in), 5 GND (power), 6 GND (power), 7 GND (power), 8 GND (power)
text: *STU

## XL1509E
designator DA?, comment XL1509E-3.3
Step-down converter; Value: XL1509E-3.3
footprint SO8E
pins: 1 VIN (power), 2 SW (out), 3 FB (in), 4 ~{EN} (in), 5 GND (power), 6 GND (power), 7 GND (power), 8 GND (power), EP GND (power)
text: *STU